# Altium schematic symbol library ICE2QS03.SchLib: 1 symbol
Pins are listed as number, name and electrical type; pins without a type are passive.

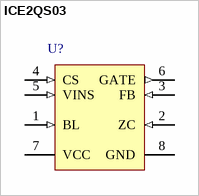
[diagram p0: symbol ICE2QS03]

## ICE2QS03
designator U?
Quasi-Resonant PWM Controller, 10.5 to 25 V, -25 to 125 degC, PG-DIP-8, Green; Manufacturer: Infineon; PartNumber: ICE2QS03; Frequency ( f ) Range: Variable; Green: TRUE; Group: DIP-8; ICC (max): 2.3 mA; Output: MOSFET Gate Driver; VCC (max): 25 V; VCC (min): 10.5 V; DatasheetVersion: Rev. 2.2; PackageVersion: Rev. 02, 05/2012; PackageReference: PG-DIP-8; PackageDescription: 8-Pin Plastic (Green) Dual In-Line Package, 9.44 x 6.35 mm Body, 2.54 mm Pitch; Supplier 1: Digi-Key; Supplier Part Number 1: ICE2QS03-ND; Supplier 2: Mouser; Supplier Part Number 2: 726-ICE2QS03; Mounting Technology: Through Hole; ComponentLink1Description: Manufacturer URL; ComponentLink1URL: http://www.infineon.com/; ComponentLink2Description: Datasheet; ComponentLink2URL: http://www.infineon.com/dgdl/Datasheet_ICE2QS03_V22_20110704.pdf?folderId=db3a304412b407950112b4182a3d24f8&fileId=db3a304325305e6d012566b50ebd7070; ComponentLink3Description: Package Specification; ComponentLink3URL: http://www.infineon.com/dgdl/Datasheet_CoolSET-F3_v22_30Aug2011.pdf?folderId=db3a304412b407950112b4182a3d24f8&fileId=db3a304412b407950112b428f6ba3f30
footprint INF-PG-DIP-8_A (DIP, 8-Leads, Body 9.435x7.875mm, Pitch 2.54mm)
footprint INF-PG-DIP-8_A (DIP, 8-Leads, Body 9.435x7.875mm, Pitch 2.54mm)
pins: 1 BL (in) "Zero Crossing", 2 ZC (in) "Feedback", 3 FB (in) "Current Sense", 4 CS (in) "High Voltage Input", 5 VINS (in) "High Voltage Input", 6 GATE (out) "Gate Drive Output", 7 VCC (power) "Controller Supply Voltage", 8 GND (power) "Controller Ground"